# Altium integrated library PCB_Project1.IntLib: 125 symbols
Pins are listed as number, name and electrical type; pins without a type are passive.

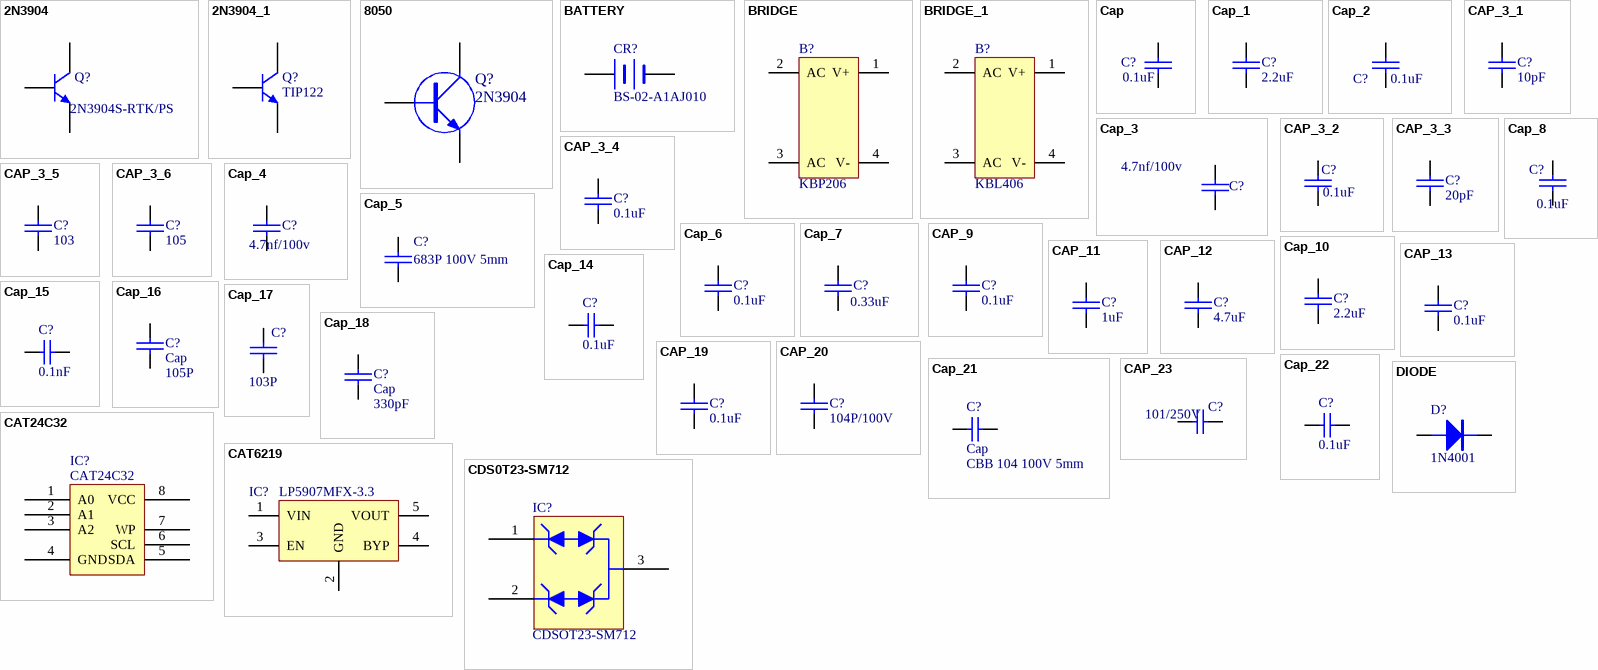
[diagram p0: symbols 2N3904 to DIODE]

## 2N3904
designator Q?, comment 2N3904S-RTK/PS
品牌： KEC  型号： 2N3904S-RTK/PS  晶体管类型：NPN 集射极击穿电压(Vceo)：40V 集电极电流(Ic)：200mA 功率(Pd)：350mW 直流电流增益(hFE@Ic,Vce)：100@10mA,1V NPN,Vceo=40V,Ic=200mA; Published: 8-Jun-2000; LatestRevisionDate: 15-Jan-2003; LatestRevisionNote: PCB Footprint 'BCY-W3/D4.7' replaced; DatasheetVersion: 1997; PackageVersion: Sep-1998; PackageReference: TO-92A; Publisher: Altium Limited; PackageDescription: TO, Flat Index; 3 In-Line, Axial Leads; Body Dia. 4.5mm; Leads 0.51 x 0.48 mm (max); ComponentLink1Description: Manufacturer Link; ComponentLink1URL: http://www.fairchildsemi.com/; ComponentLink2Description: Datasheet; ComponentLink2URL: http://www.fairchildsemi.com/ds/2N%2F2N3904.pdf
simulation model 2N3904 (NPN)
signal-integrity model 2N3904
footprint SOT-23
pins: 1 B, 2 E, 3 C

## 2N3904_1
designator Q?, comment TIP122
NPN General Purpose Amplifier; Published: 8-Jun-2000; LatestRevisionDate: 15-Jan-2003; LatestRevisionNote: PCB Footprint 'BCY-W3/D4.7' replaced; DatasheetVersion: 1997; PackageVersion: Sep-1998; PackageReference: TO-92A; Publisher: Altium Limited; PackageDescription: TO, Flat Index; 3 In-Line, Axial Leads; Body Dia. 4.5mm; Leads 0.51 x 0.48 mm (max); ComponentLink1Description: Manufacturer Link; ComponentLink1URL: http://www.fairchildsemi.com/; ComponentLink2Description: Datasheet; ComponentLink2URL: http://www.fairchildsemi.com/ds/2N%2F2N3904.pdf
footprint TO-220-AB (TO, Thru-Hole, Vertical, Heatsink Mounted; 3 In-Line Leads; Pitch 2.54 mm)
pins: 1 B, 2 C, 3 E

## 8050
designator Q?, comment 2N3904
品牌： KEC   型号： 2N3904S-RTK/PS 晶体管类型：NPN 集射极击穿电压(Vceo)：40V 集电极电流(Ic)：200mA 功率(Pd)：350mW 直流电流增益(hFE@Ic,Vce)：100@10mA,1V NPN,Vceo=40V,Ic=200mA
footprint TO92BB
footprint SOT-23
pins: 1 B, 2 E, 3 C

## BATTERY
designator CR?, comment BS-02-A1AJ010
品牌： MYOUNG(美阳)  型号： BS-02-A1AJ010  连接器类型：电池底座 适用电池规格：CR2032 工作温度范围：-25℃~+85℃ 插脚 卧式底座 环保吸塑托盘包装
footprint BATT
footprint BATT
pins: 1 +, 2 -
2 alternate drawings of the same symbol

## BRIDGE
designator B?, comment KBP206
品牌： MDD  型号： KBP206  直流反向耐压(Vr)：600V 平均整流电流(Io)：2A 正向压降(Vf)：1.1V@2A 正向浪涌电流(Ifsm)：60A
footprint KBP206
pins: 1 V+, 2 AC, 3 AC, 4 V-

## BRIDGE_1
designator B?, comment KBL406
品牌： MDD  型号： KBL406  直流反向耐压(Vr)：600V 平均整流电流(Io)：4A 正向压降(Vf)：1V@4A 正向浪涌电流(Ifsm)：125A
footprint KPL406
pins: 1 V+, 2 AC, 3 AC, 4 V-

## Cap
designator C?, comment 0.1uF
品牌： SAMSUNG(三星)    型号： CL10B104KB8NNNC  容值：100nF 精度：±10% 额定电压：50V 材质(温度系数)：X7R 材质:X7R; Value: 104P
footprint 0805C
pins: 1, 2

## Cap_1
designator C?, comment 2.2uF
品牌： SAMSUNG(三星) 型号： CL21B225KAFNNNE 容值：2.2uF 精度：±10% 额定电压：25V 材质(温度系数)：X7R 材质:X7R; Value: 104P
footprint 0805C
pins: 1, 2

## Cap_2
designator C?, comment 0.1uF
品牌： SAMSUNG(三星) 型号： CL21B104KBCNNNC ：容值：100nF 精度：±10% 额定电压：50V 材质(温度系数)：X7R 材质:X7R; Value: 104P
footprint 0805C
pins: 1, 2

## Cap_3
designator C?, comment 4.7nf/100v
品牌： muRata(村田) 品牌： muRata(村田)  容值：4.7nF 精度：±10% 额定电压：100V 温度系数：X7R; Value: 472P 100V 5mm
footprint CP1
pins: 1, 2

## CAP_3_1
designator C?, comment 10pF
品牌： SAMSUNG(三星)  型号： CL21C100JCANNNC 容值：10pF 精度：±5% 额定电压：100V 材质(温度系数)：C0G C0G
footprint 0805C
pins: 1, 2

## CAP_3_2
designator C?, comment 0.1uF
品牌： SAMSUNG(三星) 型号： CL21B104KBCNNNC ：容值：100nF 精度：±10% 额定电压：50V 材质(温度系数)：X7R 材质:X7R
footprint 0805C
pins: 1, 2

## CAP_3_3
designator C?, comment 20pF
品牌： SAMSUNG(三星)  型号： CL21C200JBANNNC     容值：20pF 精度：±5% 额定电压：50V 材质(温度系数)：C0G 材质:C0G
footprint 0805C
pins: 1, 2

## CAP_3_4
designator C?, comment 0.1uF
品牌： SAMSUNG(三星)    型号： CL10B104KB8NNNC  容值：100nF 精度：±10% 额定电压：50V 材质(温度系数)：X7R 材质:X7R
footprint 0805C
pins: 1, 2

## CAP_3_5
designator C?, comment 103
品牌： SAMSUNG(三星)  型号： CL21B103KBANNNC  容值：10nF 精度：±10% 额定电压：50V 材质(温度系数)：X7R 材质:X7R
footprint 0805C
pins: 1, 2

## CAP_3_6
designator C?, comment 105
品牌： SAMSUNG(三星)  型号： CL21B105KBFNNNE  容值：1uF 精度：±10% 额定电压：50V 材质(温度系数)：X7R 材质:X7R
footprint 0805C
pins: 1, 2

## Cap_4
designator C?, comment 4.7nf/100v
品牌： muRata(村田) 品牌： muRata(村田)  容值：4.7nF 精度：±10% 额定电压：100V 温度系数：X7R; Value: 472P
footprint CP1
pins: 1, 2

## Cap_5
designator C?, comment 683P 100V 5mm
品牌： muRata(村田) 型号： RCER72A683K1K1H03B  容值：68nF 精度：±10% 额定电压：100V 温度系数：X7R; Value: 683P 100V 5mm
footprint CP1
pins: 1, 2

## Cap_6
designator C?, comment 0.1uF
品牌： SAMSUNG(三星)    型号： CL10B104KB8NNNC  容值：100nF 精度：±10% 额定电压：50V 材质(温度系数)：X7R 材质:X7R
footprint 0805C
pins: 1, 2

## Cap_7
designator C?, comment 0.33uF
品牌： SAMSUNG(三星) 型号： CL21B334KBFNNNE 容值：330nF 精度：±10% 额定电压：50V 材质(温度系数)：X7R 材质:X7R; Value: 0.33uF
footprint 0805C
pins: 1, 2

## Cap_8
designator C?, comment 0.1uF
品牌： SAMSUNG(三星) 型号： CL21B104KBCNNNC ：容值：100nF 精度：±10% 额定电压：50V 材质(温度系数)：X7R 材质:X7R; Value: 0.1uF
footprint 0805C
pins: 1, 2

## CAP_9
designator C?, comment 0.1uF
footprint 0805C
pins: 1, 2

## Cap_10
designator C?, comment 2.2uF
Capacitor; Value: 104P
footprint 0805C
pins: 1, 2

## CAP_11
designator C?, comment 1uF
品牌： SAMSUNG(三星)  型号： CL21B105KBFNNNE  容值：1uF 精度：±10% 额定电压：50V 材质(温度系数)：X7R 材质:X7R
footprint 0805C
pins: 1, 2

## CAP_12
designator C?, comment 4.7uF
品牌： SAMSUNG(三星)  型号： CL21A475KBQNNNE  容值：4.7uF 精度：±10% 额定电压：50V 材质(温度系数)：X5R 材质：X5R
footprint 0805C
pins: 1, 2

## CAP_13
designator C?, comment 0.1uF
Capacitor
footprint 0805C
pins: 1, 2

## Cap_14
designator C?, comment 0.1uF
品牌： SAMSUNG(三星) 型号： CL21B104KBCNNNC ：容值：100nF 精度：±10% 额定电压：50V 材质(温度系数)：X7R 材质:X7R; Published: 8-Jun-2000; LatestRevisionDate: 17-Jul-2002; LatestRevisionNote: Re-released for DXP Platform.; PackageReference: RAD-0.3; Publisher: Altium Limited; PackageDescription: Radial Cap, Thru-Hole; 2 Leads; 0.3 in Pin Spacing; Value: 0.1uF
footprint RAD-0.3 (Radial Cap, Thru-Hole; 2 Leads; 0.3 in Pin Spacing)
simulation model CAP (Capacitor)
signal-integrity model Cap
footprint 0603C
footprint 0805C
pins: 1, 2

## Cap_15
designator C?, comment 0.1nF
品牌： SAMSUNG(三星)   型号： CL21C101JBANNNC   容值：100pF 精度：±5% 额定电压：50V 材质(温度系数)：C0G 材质:C0G; Published: 8-Jun-2000; LatestRevisionDate: 17-Jul-2002; LatestRevisionNote: Re-released for DXP Platform.; PackageReference: RAD-0.3; Publisher: Altium Limited; PackageDescription: Radial Cap, Thru-Hole; 2 Leads; 0.3 in Pin Spacing; Value: 0.1nF
footprint RAD-0.3 (Radial Cap, Thru-Hole; 2 Leads; 0.3 in Pin Spacing)
simulation model CAP (Capacitor)
signal-integrity model Cap
footprint 0603C
footprint 0805C
pins: 1, 2

## Cap_16
designator C?, comment Cap  value 105P
Capacitor
footprint 0805C
pins: 1, 2

## Cap_17
designator C?, comment value 103P  (hidden comment: Cap)
Capacitor
footprint 0805C
pins: 1, 2

## Cap_18
designator C?, comment Cap  value 330pF
footprint 0603C
pins: 1, 2

## CAP_19
designator C?, comment 0.1uF
品牌： SAMSUNG(三星) 型号： CL21B104KBCNNNC ：容值：100nF 精度：±10% 额定电压：50V 材质(温度系数)：X7R 材质:X7R
footprint 0805C
pins: 1, 2

## CAP_20
designator C?, comment 104P/100V
Capacitor
footprint CP1
pins: 1, 2

## Cap_21
designator C?, comment Cap  value CBB 104 100V 5mm
Capacitor; Published: 8-Jun-2000; LatestRevisionDate: 17-Jul-2002; LatestRevisionNote: Re-released for DXP Platform.; PackageReference: RAD-0.3; Publisher: Altium Limited; PackageDescription: Radial Cap, Thru-Hole; 2 Leads; 0.3 in Pin Spacing
simulation model CAP (Capacitor)
signal-integrity model Cap
footprint CP1
pins: 1, 2

## Cap_22
designator C?, comment value 0.1uF  (hidden comment: Cap)
Capacitor; Published: 8-Jun-2000; LatestRevisionDate: 17-Jul-2002; LatestRevisionNote: Re-released for DXP Platform.; PackageReference: RAD-0.3; Publisher: Altium Limited; PackageDescription: Radial Cap, Thru-Hole; 2 Leads; 0.3 in Pin Spacing
footprint RAD-0.3 (Radial Cap, Thru-Hole; 2 Leads; 0.3 in Pin Spacing)
simulation model CAP (Capacitor)
signal-integrity model Cap
footprint 0603C
pins: 1, 2

## CAP_23
designator C?, comment 101/250V
品牌： SHM(南方宏明) 型号： DCF101K26Y5PQ6BL7A0 等级：X1,Y2 容值：100pF 精度：±10% 电压(AC)：250V；400V 安规瓷介电容器 Y2 101 ±10% Y2 250VAC；100pF；±10%；Y5P；D=6.8max；CP线 0.55mm；引脚长20min.mm；直脚/直引线；引线间距7.5mm; Manufacturer: Generic Components; Class: Passive; SubClass: Capacitor; Published: 08/06/2000; Publisher: Altium Hobart Technology Centre
footprint RAD-0.3
footprint SIP-P4/A7.5
footprint C6-7.62
pins: 1, 2
2 alternate drawings of the same symbol

## CAT24C32
designator IC?
品牌： onsemi(安森美)  型号： CAT24C32WI-GT3  接口类型：I2C 存储容量：32Kbit EEPROM 串行 32-Kb I2C CAT24C32 是一款 32-kb I2C 串行 EEPROM 器件，内部组织为 4096 个词，每个词 8 位。它具有 32 字节页写入缓存，支持标准 (100 kHz)、快速 (400 kHz) 和超快 (1 MHz) I2C 协议。外部地址引脚使其能够在同一个总线上放置最多八
footprint SO8
pins: 1 A0, 2 A1, 3 A2, 4 GND, 5 SDA, 6 SCL, 7 WP, 8 VCC

## CAT6219
designator IC?, comment LP5907MFX-3.3
品牌： TECH PUBLIC(台舟)  型号： TPLP5907MFX-3.3
footprint SOT-23-5
pins: 1 VIN, 2 GND, 3 EN, 4 BYP, 5 VOUT
2 alternate drawings of the same symbol

## CDS0T23-SM712
designator IC?, comment CDSOT23-SM712
品牌： BOURNS     型号： CDSOT23-SM712   线路数：2 反向截止电压(Vrwm)：12V；7V 击穿电压(VBR)：13.3V；7.5V 钳位电压(Vc)@Ipp：26V；14V
footprint SOT23
pins: 1, 2, 3

## DIODE
designator D?, comment 1N4001
品牌： TWGMC(台湾迪嘉) 型号： 1N4001 极管配置：独立式 直流反向耐压(Vr)：50V 平均整流电流(Io)：1A 正向压降(Vf)：1.1V@1A 二极管配置：独立式 直流反向耐压(Vr)：50V 平均整流电流(Io)：1A 正向压降(Vf)：1.1V@1A
footprint SK24
pins: 1 A, 2 K

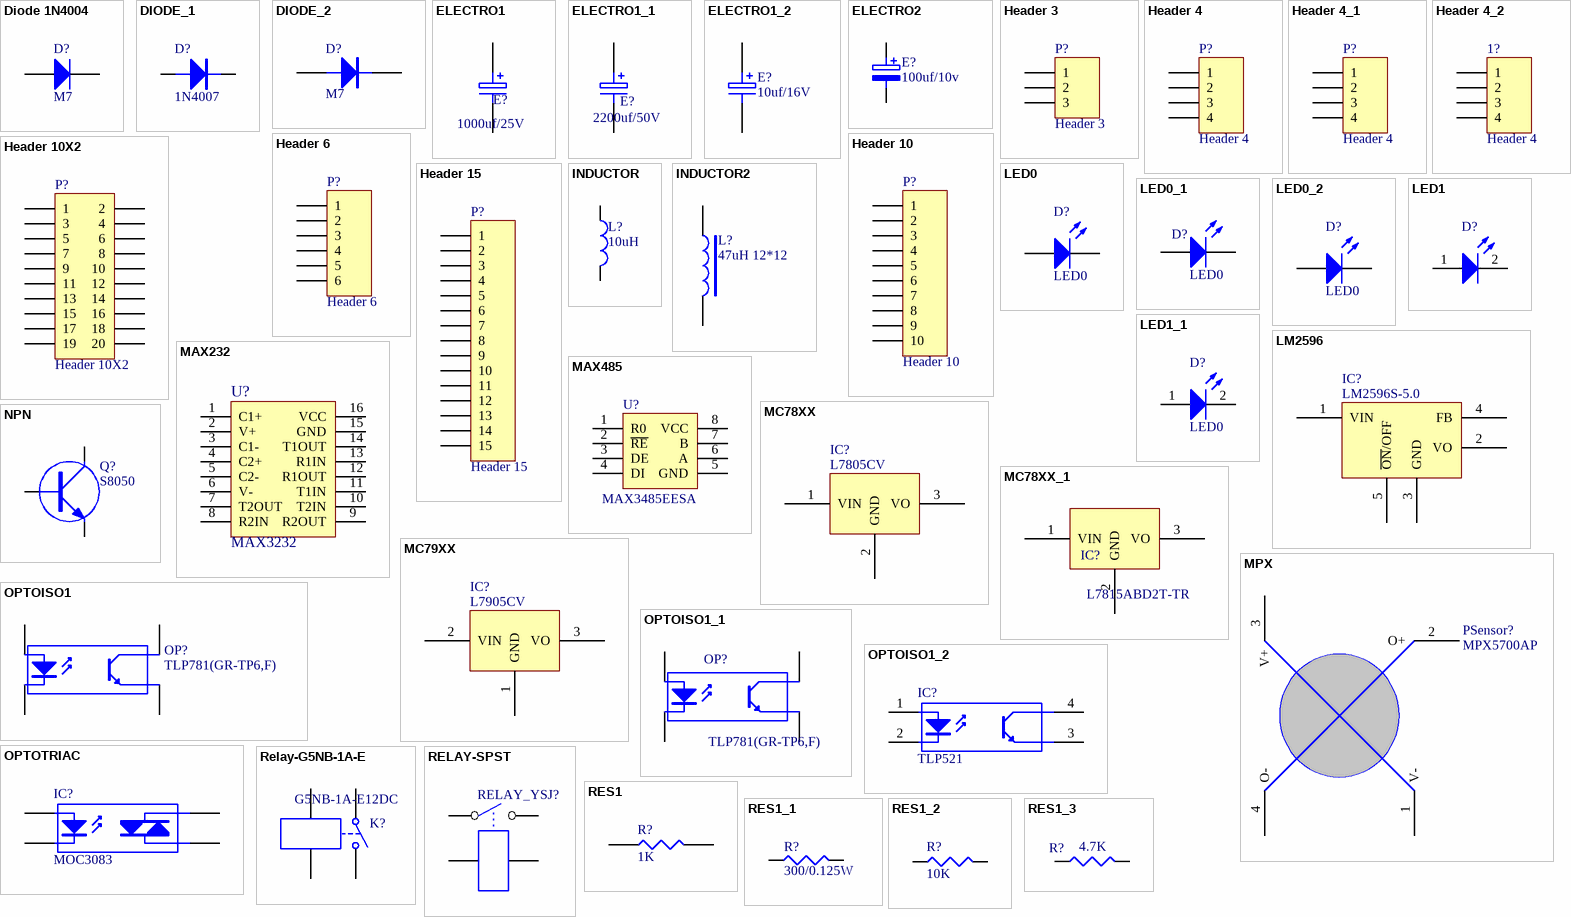
[diagram p1: symbols Diode 1N4004 to RES1_3]

## Diode 1N4004
designator D?, comment M7
1 Amp General Purpose Rectifier; Published: 8-Jun-2000; LatestRevisionDate: 17-Jul-2002; LatestRevisionNote: Re-released for DXP Platform.; DatasheetVersion: 1998; PackageVersion: Aug-1999; PackageReference: DO-41; Publisher: Altium Limited; PackageDescription: Diode, Axial; Body 5.2 x 2.7 mm (LxDia. max), Lead Dia. 0.86 mm (max); Code_JEDEC: DO-204-AL; ComponentLink1Description: Manufacturer Link; ComponentLink1URL: http://www.fairchildsemi.com/; ComponentLink2Description: Datasheet; ComponentLink2URL: http://www.fairchildsemi.com/ds/1N%2F1N4001.pdf
footprint DO-41 (Diode, Axial; Body 5.2 x 2.7 mm (LxDia. max), Lead Dia. 0.86 mm (max))
simulation model 1N4004 (DIODE)
signal-integrity model 1N4004
footprint DO-214
footprint DO-214AC
pins: 1 A, 2 K

## DIODE_1
designator D?, comment 1N4007
品牌： TWGMC(台湾迪嘉) 型号： 1N4007 二极管配置：独立式 直流反向耐压(Vr)：1kV 平均整流电流(Io)：1A 正向压降(Vf)：1.1V@1A 二极管配置：独立式 直流反向耐压(Vr)：1kV 平均整流电流(Io)：1A 正向压降(Vf)：1.1V@1A
footprint DO-213AB
pins: 1 A, 2 K

## DIODE_2
designator D?, comment M7
Diode
footprint SK24
pins: 1 A, 2 K

## ELECTRO1
designator E?, comment 1000uf/25V
品牌： CX(承兴) 型号： KM108M025G17RR0VH2FP0 容值：1000uF 精度：±20% 额定电压：25V; Value: 1000uf/25V
footprint EC5.08-10.5
pins: 1, 2

## ELECTRO1_1
designator E?, comment 2200uf/50V
品牌： CX(承兴) 型号： KM228M050K30RR0VH2FP0 容值：2200uF 精度：±20% 额定电压：50V; Value: 2200uf/50V
footprint EC5.08-13.5
pins: 1, 2

## ELECTRO1_2
designator E?, comment 10uf/16V
品牌： Kyocera AVX 型号： TAJB106K016RNJ ：容值：10uF 精度：±10% 额定电压：16V 等效串联电阻：2.8Ω@100kHz
footprint 3528
pins: 1, 2

## ELECTRO2
designator E?, comment 100uf/10v
品牌： Kyocera AVX 型号： TAJB107M010RNJ  容值：100uF 精度：±20% 额定电压：10V 等效串联电阻：1.4Ω@100kHz; Value: 100uf/16V
footprint E-BIP-P4/D10
footprint 3528
pins: 1, 2
2 alternate drawings of the same symbol

## Header 3
designator P?
品牌： KEFA(科发)  KF7.62-3p隔板类型：两面 间距：7.62mm 结构：1x2P 每排PIN数：2 排数：1 安装方式：直针 引脚位置：边脚 额定电流：24A 额定电压：450V 线规 - AWG：12~22 线规 - mm2：2.5 工作温度范围：-40℃~+105℃ 颜色：黑色 黑色; LatestRevisionDate: 17-Jul-2002; LatestRevisionNote: Re-released for DXP Platform.; Publisher: Altium Limited
footprint HDR1X3 (Connector; Header; 3 Position)
signal-integrity model Connector
footprint CONN-TH-KF7.62-3P
pins: 1, 2, 3

## Header 4
designator P?
品牌： KEFA(科发)  KF7.62-4p隔板类型：两面 间距：7.62mm 结构：1x2P 每排PIN数：2 排数：1 安装方式：直针 引脚位置：边脚 额定电流：24A 额定电压：450V 线规 - AWG：12~22 线规 - mm2：2.5 工作温度范围：-40℃~+105℃ 颜色：黑色 黑色; LatestRevisionDate: 17-Jul-2002; LatestRevisionNote: Re-released for DXP Platform.; Publisher: Altium Limited
signal-integrity model Connector
footprint CONN-TH_KF7.62-4P
pins: 1, 2, 3, 4

## Header 4_1
designator P?, comment Header 4
品牌： XFCN(兴飞) 型号： PZ254V-11-04P  排数：单排 总PIN位数：4P 间距：2.54mm 插针结构：1x4P 安装类型：直插 圆针/方针：方针 额定电流：3A 额定电压：250V 配合针长度：6mm 塑高：2.5mm 端接针长度：3mm 工作温度范围：-40℃~+105℃ 颜色：黑色; LatestRevisionDate: 17-Jul-2002; LatestRevisionNote: Re-released for DXP Platform.; Publisher: Altium Limited
footprint HDR1X4 (Connector; Header; 4 Position)
signal-integrity model Connector
pins: 1, 2, 3, 4

## Header 4_2
designator 1?, comment Header 4
品牌： Megastar(兆星)    型号： ZX-XH2.54-4PZZ    参考系列：XH 间距：2.54mm 插针结构：1x4P 排数：1 每排PIN数：4 公母：公型插针 安装方式：直插 额定电流：3A 触头材质：黄铜 触头镀层：锡 工作温度范围：-25℃~+85℃ 焊接温度(最大值)：260℃ 配套胶壳型号： ZX-XH2.54-4PJK 配套端子型号： ZX-XH2.54-DZ; LatestRevisionDate: 17-Jul-2002; LatestRevisionNote: Re-released for DXP Platform.; Publisher: Altium Limited
footprint HDR1X4 (Connector; Header; 4 Position)
signal-integrity model Connector
footprint XH2.54-4P
pins: 1, 2, 3, 4

## Header 6
designator P?
品牌： KEFA(科发)  KF7.62-6p隔板类型：两面 间距：7.62mm 结构：1x2P 每排PIN数：2 排数：1 安装方式：直针 引脚位置：边脚 额定电流：24A 额定电压：450V 线规 - AWG：12~22 线规 - mm2：2.5 工作温度范围：-40℃~+105℃ 颜色：黑色 黑色; LatestRevisionDate: 17-Jul-2002; LatestRevisionNote: Re-released for DXP Platform.; Publisher: Altium Limited
signal-integrity model Connector
footprint CONN-TH_6P-P7.62_WJ25C-B-7.62-6P
pins: 1, 2, 3, 4, 5, 6

## Header 10
designator P?
品牌： KEFA(科发)  KF7.62-10p隔板类型：两面 间距：7.62mm 结构：1x2P 每排PIN数：2 排数：1 安装方式：直针 引脚位置：边脚 额定电流：24A 额定电压：450V 线规 - AWG：12~22 线规 - mm2：2.5 工作温度范围：-40℃~+105℃ 颜色：黑色 黑色; LatestRevisionDate: 17-Jul-2002; LatestRevisionNote: Re-released for DXP Platform.; Publisher: Altium Limited
footprint CONN-TH-KF7.62-10P
signal-integrity model Connector
pins: 1, 2, 3, 4, 5, 6, 7, 8, 9, 10

## Header 10X2
designator P?
品牌： ZHOURI(洲日)   型号： DC3-2.54-20PAS  ：连接器类型：简牛座 间距：2.54mm 结构：2x10P 排数：2 每排PIN数：10 行距：2.54mm 封装形式：直插 额定电流：1.5A 工作温度范围：-40℃~+105℃ 简易牛角 2.54-2x10 ROHS 直插; LatestRevisionDate: 17-Jul-2002; LatestRevisionNote: Re-released for DXP Platform.; Publisher: Altium Limited
signal-integrity model Connector
footprint HDR-TH_20P-P2.54_DC3-2.54-20PAS
pins: 1, 2, 3, 4, 5, 6, 7, 8, 9, 10, 11, 12, 13, 14, 15, 16, 17, 18, 19, 20

## Header 15
designator P?
品牌： KEFA(科发)  KF7.62-15p隔板类型：两面 间距：7.62mm 结构：1x2P 每排PIN数：2 排数：1 安装方式：直针 引脚位置：边脚 额定电流：24A 额定电压：450V 线规 - AWG：12~22 线规 - mm2：2.5 工作温度范围：-40℃~+105℃ 颜色：黑色 黑色; LatestRevisionDate: 17-Jul-2002; LatestRevisionNote: Re-released for DXP Platform.; Publisher: Altium Limited
footprint 15p
signal-integrity model Connector
pins: 1, 2, 3, 4, 5, 6, 7, 8, 9, 10, 11, 12, 13, 14, 15

## INDUCTOR
designator L?, comment 10uH
品牌： FH(风华)  型号： CMI201209X100KT  ：电感值：10uH 精度：±10% 额定电流：15mA 直流电阻(DCR)：1.15Ω
footprint L 0805 (小功率贴片电感        淘宝ID:黄晶宝石)
pins: 1, 2

## INDUCTOR2
designator L?  value 47uH 12*12  (hidden comment: INDUCTOR2)
品牌： YJYCOIN(益嘉源)  型号： YPRH1209-470M    电感值：47uH 精度：±20% 额定电流：3.6A
footprint L47UH
pins: 1, 2

## LED0
designator D?
品牌： 国星光电 型号： NCD0805B2 发光颜色：蓝灯 贴片LED；0805蓝色；2012蓝色；透镜颜色：无色透明；发光角度：130°；功率：72mW；工作温度：-30℃~+85℃；; Published: 8-Jun-2000; LatestRevisionDate: 08-Jul-2005; LatestRevisionNote: Mech Layer 1 removed.; PackageReference: LED-0; Publisher: Altium Limited; PackageDescription: LED; 2 Leads
simulation model LED0 (Diode)
footprint 0805LED
pins: 1 A, 2 K

## LED0_1
designator D?, comment LED0
品牌： 国星光电  型号： NCD0805G1  发光颜色：翠绿 贴片LED；0805翠绿；2012翠绿；透镜颜色：无色透明；发光角度：130°；功率：72mW；工作温度：-30℃~+85℃； 尺寸2.0*1.25*1.1；IF=5ma：2.5~3.6v，525~537.5nm,180~400mcd 金线，光强高，功耗低，可靠性好，寿命长; Published: 8-Jun-2000; LatestRevisionDate: 08-Jul-2005; LatestRevisionNote: Mech Layer 1 removed.; PackageReference: LED-0; Publisher: Altium Limited; PackageDescription: LED; 2 Leads
simulation model LED0 (Diode)
footprint 0805LED
pins: 1 A, 2 K

## LED0_2
designator D?, comment LED0
Typical INFRARED GaAs LED; Published: 8-Jun-2000; LatestRevisionDate: 08-Jul-2005; LatestRevisionNote: Mech Layer 1 removed.; PackageReference: LED-0; Publisher: Altium Limited; PackageDescription: LED; 2 Leads
footprint LED-0 (LED; 2 Leads)
simulation model LED0 (Diode)
footprint D0805 (1/8W)
pins: 1 A, 2 K

## LED1
designator D?
Typical RED GaAs LED; Manufacturer: Generic Components; Class: Optoelectronic; Published: 08/06/2000; Publisher: Altium Hobart Technology Centre; SubClass: LED
footprint LED-1
footprint 0805LED
pins: 1 A, 2 K
2 alternate drawings of the same symbol

## LED1_1
designator D?, comment LED0
品牌： 国星光电 型号： NCD0805B2 发光颜色：蓝灯 贴片LED；0805蓝色；2012蓝色；透镜颜色：无色透明；发光角度：130°；功率：72mW；工作温度：-30℃~+85℃；; Manufacturer: Generic Components; Class: Optoelectronic; SubClass: LED; Published: 08/06/2000; Publisher: Altium Hobart Technology Centre
footprint LED-1
footprint 0805LED
pins: 1 A, 2 K
2 alternate drawings of the same symbol

## LM2596
designator IC?, comment LM2596S-5.0
品牌： UMW(友台半导体)  型号： LM2596S-5.0  功能类型：降压型 输出类型：固定 输入电压：40V 输出电压：5V 输出电流(最大值)：3A
footprint TO-263-LM2596
pins: 1 VIN, 2 VO, 3 GND, 4 FB, 5 ~{ON}/OFF

## MAX232
designator U?, comment MAX3232
品牌： UMW(友台半导体)   型号： MAX3232ESE   类型：收发器 驱动器/接收器：2/2 数据速率：250Kbps
footprint SO16
pins: 1 C1+, 2 V+, 3 C1-, 4 C2+, 5 C2-, 6 V-, 7 T2OUT, 8 R2IN, 9 R2OUT, 10 T2IN, 11 T1IN, 12 R1OUT, 13 R1IN, 14 T1OUT, 15 GND, 16 VCC

## MAX485
designator U?, comment MAX3485EESA
品牌： ADI(亚德诺)/MAXIM(美信)   型号： MAX3485EESA+T  类型：收发器 驱动器/接收器：1/1 数据速率：12Mbps
footprint SOP8 (封装库来自淘宝卖家 ID：黄晶宝石)
pins: 1 R0, 2 ~{RE}, 3 DE, 4 DI, 5 GND, 6 A, 7 B, 8 VCC

## MC78XX
designator IC?, comment L7805CV
品牌： UMW(友台半导体)  型号： L7805CV  输出类型：固定 输出极性：正 最大输入电压：35V 输出电压：5V 输出电流：1.2A
footprint DPAK3
pins: 1 VIN, 2 GND, 3 VO

## MC78XX_1
designator IC?, comment L7815ABD2T-TR
品牌： ST(意法半导体)   型号： L7815ABD2T-TR   输出类型：固定 输出极性：正 最大输入电压：35V 输出电压：15V 输出电流：1.5A 电源纹波抑制比(PSRR)：58dB@(120Hz)
footprint DPAK3
pins: 1 VIN, 2 GND, 3 VO

## MC79XX
designator IC?, comment L7905CV
品牌： ST(意法半导体) 封装： TO-220 输出类型：固定 输出极性：负 最大输入电压：35V 输出电压：5V 输出电流：1.5A 电源纹波抑制比(PSRR)：60dB@(120Hz) 薄片 5.0V
footprint DPAK3
pins: 1 GND, 2 VIN, 3 VO

## MPX
designator PSensor?, comment MPX5700AP
footprint MPX5700AP
pins: 1 V-, 2 O+, 3 V+, 4 O-

## NPN
designator Q?, comment S8050
NPN Transistor
footprint SOT23
pins: 1 B, 2 E, 3 C

## OPTOISO1
designator OP?, comment TLP781(GR-TP6,F)
品牌： TOSHIBA(东芝)    型号： TLP781(GR-TP6,F)  输入电压类型：DC 输出通道数：1 正向电压：1.15V 反向电压：5V 输出电流：50mA 接收端电压：80V 集射极饱和电压(Vce(sat)@Ic,IF)：400mV@2.4mA,8mA 隔离电压(rms)：5kV OPTOISOLATR 5KV TRANSISTOR 工作温度:-55°C~110°C
footprint DIP-4
footprint TLV-356
pins: 1 A, 2 K, 3 E, 4 C

## OPTOISO1_1
designator OP?, comment TLP781(GR-TP6,F)
Optoisolator  品牌： TOSHIBA(东芝)    型号： TLP781(GR-TP6,F)  输入电压类型：DC 输出通道数：1 正向电压：1.15V 反向电压：5V 输出电流：50mA 接收端电压：80V 集射极饱和电压(Vce(sat)@Ic,IF)：400mV@2.4mA,8mA 隔离电压(rms)：5kV OPTOISOLATR 5KV TRANSISTOR 工作温度:-55°C~110°C
footprint DIP-4
footprint EL-817
footprint TLV-356
pins: 1 A, 2 K, 3 E, 4 C

## OPTOISO1_2
designator IC?, comment TLP521
Optoisolator
footprint DIP4
pins: 1 A, 2 K, 3 E, 4 C

## OPTOTRIAC
designator IC?, comment MOC3083
品牌： LITEON(光宝)   型号： MOC3083     可控硅类型：双向可控硅 正向电压：1.2V 正向电流：50mA 断态峰值电压(Vdrm)：800V 静态dv/dt：1500V/us
footprint DIP6
pins: 1 A, 2 K, 4 A/K, 6 A/K

## Relay-G5NB-1A-E
designator K?, comment G5NB-1A-E12DC
品牌： OMRON(欧姆龙) 型号： G5NB-1A-E DC12 封装： 插件,7x20.4mm; Published: 24-Mar-1999; LatestRevisionDate: 17-Jul-2002; LatestRevisionNote: Re-released for DXP Platform.; PackageReference: MODULE4; Publisher: Altium Limited
simulation model SPSTRELAY (Spice Subcircuit)
footprint JQC-3FF
footprint G5NB-1A-E
pins: 1, 2, 3, 4

## RELAY-SPST
designator RELAY_YSJ?, comment HF2150-1A-24DE  (value not drawn)
HF2150-1A-24DE品牌: HF(宏发)
footprint JIDIANQI
pins: 1, 2, 3, 4

## RES1
designator R?, comment 1K
品牌： UNI-ROYAL(厚声) 型号： 0805W8F1001T5E 电阻类型：厚膜电阻 阻值：1kΩ 精度：±1% 功率：125mW 温度系数：±100ppm/℃
footprint 0805R
pins: 1, 2

## RES1_1
designator R?, comment 300/0.125W
品牌： UNI-ROYAL(厚声)    型号： 0805W8F3000T5E    电阻类型：厚膜电阻 阻值：300Ω 精度：±1% 功率：125mW 温度系数：±100ppm/℃
footprint 0805R
pins: 1, 2

## RES1_2
designator R?, comment 10K
品牌： UNI-ROYAL(厚声) 型号： 0805W8F1002T5E 电阻类型：厚膜电阻 阻值：10kΩ 精度：±1% 功率：125mW 温度系数：±100ppm/℃
footprint 0805R
pins: 1, 2

## RES1_3
designator R?, comment 4.7K
电阻类型：厚膜电阻 阻值：4.7kΩ 精度：±1% 功率：125mW 温度系数：±100ppm/℃
footprint 0805R
pins: 1, 2

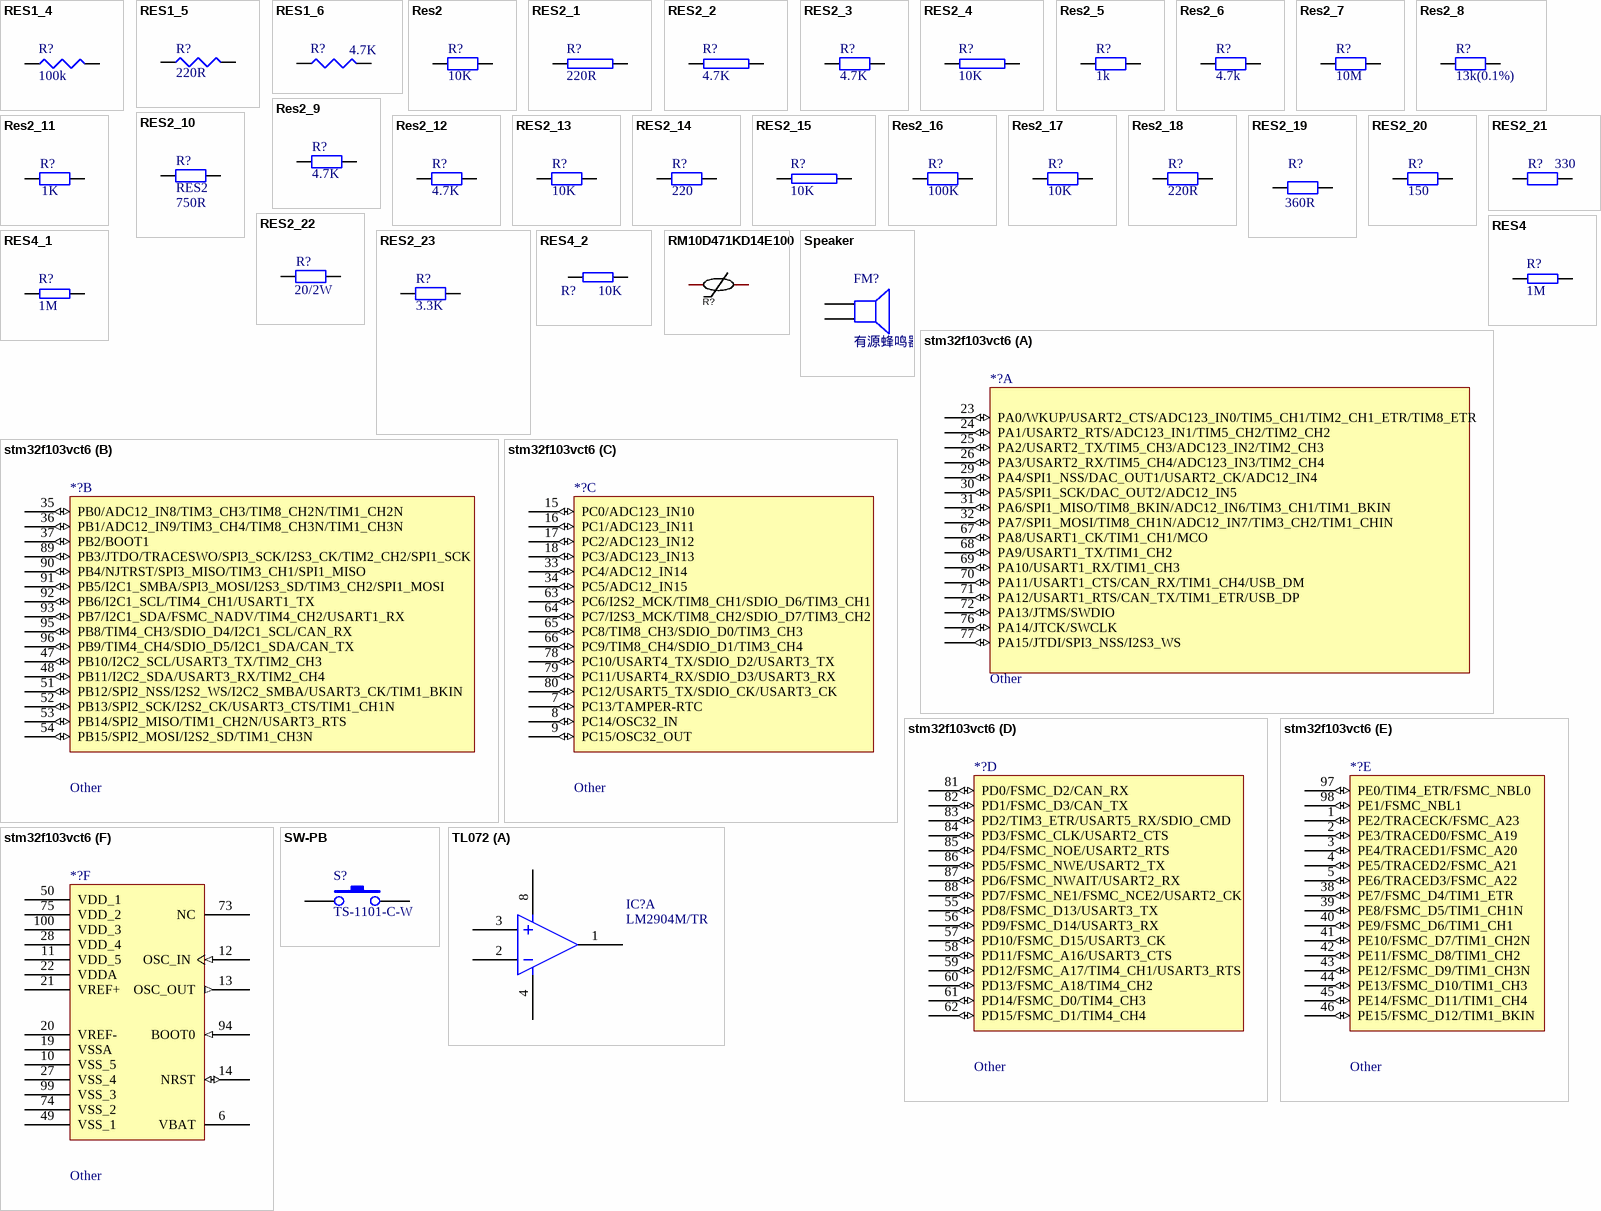
[diagram p2: symbols RES1_4 to TL072]

## RES1_4
designator R?, comment 100k
品牌： UNI-ROYAL(厚声)  品牌： UNI-ROYAL(厚声)  电阻类型：厚膜电阻 阻值：100kΩ 精度：±1% 功率：125mW 温度系数：±100ppm/℃
footprint 0805R
pins: 1, 2

## RES1_5
designator R?, comment 220R
品牌： UNI-ROYAL(厚声) 型号： 0805W8J0221T5E 电阻类型：厚膜电阻 阻值：220Ω 精度：±5% 功率：125mW 温度系数：±100ppm/℃
footprint 1206
footprint 0805R
pins: 1, 2

## RES1_6
designator R?, comment 4.7K
品牌： UNI-ROYAL(厚声) 型号： 0805W8F4701T5E 电阻类型：厚膜电阻 阻值：4.7kΩ 精度：±1% 功率：125mW 温度系数：±100ppm/℃
footprint 1206
footprint 0805R
pins: 1, 2

## Res2
designator R?, comment 10K
品牌： UNI-ROYAL(厚声) 型号： 0805W8F1002T5E 电阻类型：厚膜电阻 阻值：10kΩ 精度：±1% 功率：125mW 温度系数：±100ppm/℃; Published: 8-Jun-2000; LatestRevisionDate: 17-Jul-2002; LatestRevisionNote: Re-released for DXP Platform.; PackageReference: AXIAL-0.4; Publisher: Altium Limited; PackageDescription: Axial Device, Thru-Hole; 2 Leads; 0.4 in Pin Spacing; Value: 10K
simulation model RESISTOR (Resistor)
signal-integrity model Res
footprint 0805R
pins: 1, 2

## RES2_1
designator R?, comment 220R
品牌： UNI-ROYAL(厚声) 型号： 0805W8J0221T5E 电阻类型：厚膜电阻 阻值：220Ω 精度：±5% 功率：125mW 温度系数：±100ppm/℃
footprint 0805R
pins: 1, 2

## RES2_2
designator R?, comment 4.7K
品牌： UNI-ROYAL(厚声) 型号： 0805W8F4701T5E 电阻类型：厚膜电阻 阻值：4.7kΩ 精度：±1% 功率：125mW 温度系数：±100ppm/℃
footprint 0805R
pins: 1, 2

## RES2_3
designator R?, comment 4.7K
品牌： UNI-ROYAL(厚声) 型号： 0805W8F3301T5E  电阻类型：厚膜电阻 阻值：3.3kΩ 精度：±1% 功率：125mW 温度系数：±100ppm/℃; Manufacturer: Generic Components; Class: Passive; SubClass: Resistor; Published: 08/06/2000; Publisher: Altium Hobart Technology Centre
footprint AXIAL-0.4
footprint SIP-P4/A7.5
footprint 0805R
pins: 1, 2
2 alternate drawings of the same symbol

## RES2_4
designator R?, comment 10K
品牌： UNI-ROYAL(厚声) 型号： 0805W8F1002T5E 电阻类型：厚膜电阻 阻值：10kΩ 精度：±1% 功率：125mW 温度系数：±100ppm/℃
footprint 0805R
pins: 1, 2

## Res2_5
designator R?, comment 1k
品牌： UNI-ROYAL(厚声) 型号： 0805W8F1001T5E 电阻类型：厚膜电阻 阻值：1kΩ 精度：±1% 功率：125mW 温度系数：±100ppm/℃; Value: 1k(0.1%); Published: 8-Jun-2000; LatestRevisionDate: 17-Jul-2002; LatestRevisionNote: Re-released for DXP Platform.; PackageReference: AXIAL-0.4; Publisher: Altium Limited; PackageDescription: Axial Device, Thru-Hole; 2 Leads; 0.4 in Pin Spacing
simulation model RESISTOR (Resistor)
signal-integrity model Res
footprint 0805R
pins: 1, 2

## Res2_6
designator R?, comment 4.7k
品牌： UNI-ROYAL(厚声) 型号： 0805W8F4701T5E 电阻类型：厚膜电阻 阻值：4.7kΩ 精度：±1% 功率：125mW 温度系数：±100ppm/℃; Value: 4.7k(0.1%); Published: 8-Jun-2000; LatestRevisionDate: 17-Jul-2002; LatestRevisionNote: Re-released for DXP Platform.; PackageReference: AXIAL-0.4; Publisher: Altium Limited; PackageDescription: Axial Device, Thru-Hole; 2 Leads; 0.4 in Pin Spacing
simulation model RESISTOR (Resistor)
signal-integrity model Res
footprint 0805R
pins: 1, 2

## Res2_7
designator R?, comment 10M
品牌： Sunway(信维通信)   型号： SC0805J1005F4ANRH   阻值：10MΩ 精度：±5% 功率：125mW 温度系数：±100ppm/℃ 贴片厚膜电阻：体积0805_精度：±5% 阻值10M; Published: 8-Jun-2000; LatestRevisionDate: 17-Jul-2002; LatestRevisionNote: Re-released for DXP Platform.; PackageReference: AXIAL-0.4; Publisher: Altium Limited; PackageDescription: Axial Device, Thru-Hole; 2 Leads; 0.4 in Pin Spacing; Value: 10M
simulation model RESISTOR (Resistor)
signal-integrity model Res
footprint 0805R
pins: 1, 2

## Res2_8
designator R?, comment 13k(0.1%)
品牌： UNI-ROYAL(厚声)  型号： 0805W8F1302T5E  电阻类型：厚膜电阻 阻值：13kΩ 精度：±1% 功率：125mW 温度系数：±100ppm/℃; Published: 8-Jun-2000; LatestRevisionDate: 17-Jul-2002; LatestRevisionNote: Re-released for DXP Platform.; PackageReference: AXIAL-0.4; Publisher: Altium Limited; PackageDescription: Axial Device, Thru-Hole; 2 Leads; 0.4 in Pin Spacing; Value: 13k(0.1%)
simulation model RESISTOR (Resistor)
signal-integrity model Res
footprint 0805R
pins: 1, 2

## Res2_9
designator R?, comment 4.7K
品牌： UNI-ROYAL(厚声) 型号： 0805W8F4701T5E 电阻类型：厚膜电阻 阻值：4.7kΩ 精度：±1% 功率：125mW 温度系数：±100ppm/℃; Published: 8-Jun-2000; LatestRevisionDate: 17-Jul-2002; LatestRevisionNote: Re-released for DXP Platform.; PackageReference: AXIAL-0.4; Publisher: Altium Limited; PackageDescription: Axial Device, Thru-Hole; 2 Leads; 0.4 in Pin Spacing; Value: 4.7K
simulation model RESISTOR (Resistor)
signal-integrity model Res
footprint 0805R
pins: 1, 2

## RES2_10
designator R?, comment RES2  value 750R
Resistor; Manufacturer: Generic Components; Class: Passive; Published: 08/06/2000; Publisher: Altium Hobart Technology Centre; SubClass: Resistor
footprint AXIAL-0.4
footprint HDR1X6
footprint 0603R
pins: 1, 2
2 alternate drawings of the same symbol

## Res2_11
designator R?, comment 1K
品牌： UNI-ROYAL(厚声) 型号： 0805W8F1001T5E 电阻类型：厚膜电阻 阻值：1kΩ 精度：±1% 功率：125mW 温度系数：±100ppm/℃; Published: 8-Jun-2000; LatestRevisionDate: 17-Jul-2002; LatestRevisionNote: Re-released for DXP Platform.; PackageReference: AXIAL-0.4; Publisher: Altium Limited; PackageDescription: Axial Device, Thru-Hole; 2 Leads; 0.4 in Pin Spacing; Value: 1K
simulation model RESISTOR (Resistor)
signal-integrity model Res
footprint 0805R
pins: 1, 2

## Res2_12
designator R?, comment 4.7K
品牌： UNI-ROYAL(厚声) 型号： 0805W8F4701T5E 电阻类型：厚膜电阻 阻值：4.7kΩ 精度：±1% 功率：125mW 温度系数：±100ppm/℃; Value: 10K; Published: 8-Jun-2000; LatestRevisionDate: 17-Jul-2002; LatestRevisionNote: Re-released for DXP Platform.; PackageReference: AXIAL-0.4; Publisher: Altium Limited; PackageDescription: Axial Device, Thru-Hole; 2 Leads; 0.4 in Pin Spacing
footprint AXIAL-0.4 (Axial Device, Thru-Hole; 2 Leads; 0.4 in Pin Spacing)
simulation model RESISTOR (Resistor)
signal-integrity model Res
footprint R0603 (1/10W)
footprint 0805R
pins: 1, 2

## RES2_13
designator R?, comment 10K
Resistor; Manufacturer: Generic Components; Class: Passive; Published: 08/06/2000; Publisher: Altium Hobart Technology Centre; SubClass: Resistor
footprint AXIAL-0.4
footprint SIP-P4/A7.5
footprint 0805R
pins: 1, 2
2 alternate drawings of the same symbol

## RES2_14
designator R?, comment 220
Resistor; Manufacturer: Generic Components; Class: Passive; Published: 08/06/2000; Publisher: Altium Hobart Technology Centre; SubClass: Resistor
footprint AXIAL-0.4
footprint DIP-14
footprint 0805R
pins: 1, 2
2 alternate drawings of the same symbol

## RES2_15
designator R?, comment 10K
footprint AXIAL0.4
pins: 1, 2

## Res2_16
designator R?, comment value 100K  (hidden comment: Res2)
Resistor; Published: 8-Jun-2000; LatestRevisionDate: 17-Jul-2002; LatestRevisionNote: Re-released for DXP Platform.; PackageReference: AXIAL-0.4; Publisher: Altium Limited; PackageDescription: Axial Device, Thru-Hole; 2 Leads; 0.4 in Pin Spacing
footprint AXIAL-0.4 (Axial Device, Thru-Hole; 2 Leads; 0.4 in Pin Spacing)
simulation model RESISTOR (Resistor)
signal-integrity model Res
footprint R0603 (1/10W)
footprint 0603R
pins: 1, 2

## Res2_17
designator R?, comment value 10K  (hidden comment: Res2)
Resistor; Published: 8-Jun-2000; LatestRevisionDate: 17-Jul-2002; LatestRevisionNote: Re-released for DXP Platform.; PackageReference: AXIAL-0.4; Publisher: Altium Limited; PackageDescription: Axial Device, Thru-Hole; 2 Leads; 0.4 in Pin Spacing
footprint AXIAL-0.4 (Axial Device, Thru-Hole; 2 Leads; 0.4 in Pin Spacing)
simulation model RESISTOR (Resistor)
signal-integrity model Res
footprint R0603 (1/10W)
footprint 0603R
pins: 1, 2

## Res2_18
designator R?, comment value 220R  (hidden comment: Res2)
Resistor; Published: 8-Jun-2000; LatestRevisionDate: 17-Jul-2002; LatestRevisionNote: Re-released for DXP Platform.; PackageReference: AXIAL-0.4; Publisher: Altium Limited; PackageDescription: Axial Device, Thru-Hole; 2 Leads; 0.4 in Pin Spacing
footprint AXIAL-0.4 (Axial Device, Thru-Hole; 2 Leads; 0.4 in Pin Spacing)
simulation model RESISTOR (Resistor)
signal-integrity model Res
footprint R0603 (1/10W)
footprint 0603R
pins: 1, 2

## RES2_19
designator R?, comment 360R
品牌： UNI-ROYAL(厚声) 型号： MFR0W4F3600A50电阻类型：金属膜电阻 阻值：360Ω 精度：±1% 功率：250mW 温度系数：±50ppm/℃ 铜脚，圆柱状直插 1/4W; Manufacturer: Generic Components; Class: Passive; SubClass: Resistor; Published: 08/06/2000; Publisher: Altium Hobart Technology Centre
footprint AXIAL-0.4
footprint SIP-P4/A7.5
footprint AXIAL0.4
pins: 1, 2
2 alternate drawings of the same symbol

## RES2_20
designator R?, comment 150
品牌： UNI-ROYAL(厚声) 型号： 0805W8F1500T5E ：电阻类型：厚膜电阻 阻值：150Ω 精度：±1% 功率：125mW 温度系数：±100ppm/℃; Manufacturer: Generic Components; Class: Passive; SubClass: Resistor; Published: 08/06/2000; Publisher: Altium Hobart Technology Centre
footprint AXIAL-0.4
footprint SIP-P4/A7.5
footprint 0805R
pins: 1, 2
2 alternate drawings of the same symbol

## RES2_21
designator R?, comment 330
品牌： UNI-ROYAL(厚声) 型号： MFR0W4F3300A50 电阻类型：金属膜电阻 阻值：330Ω 精度：±1% 功率：250mW 温度系数：±50ppm/℃ 铜脚，圆柱状直插 1/4W; Manufacturer: Generic Components; Class: Passive; SubClass: Resistor; Published: 08/06/2000; Publisher: Altium Hobart Technology Centre
footprint AXIAL-0.4
footprint LED-1
footprint AXIAL0.4
pins: 1, 2
2 alternate drawings of the same symbol

## RES2_22
designator R?, comment 20/2W
品牌： 华星机电 型号： MF2WS-20Ω±1%T 电阻类型：金属膜电阻 阻值：20Ω 精度：±1% 功率：2W 温度系数：±200ppm/℃; Manufacturer: Generic Components; Class: Passive; SubClass: Resistor; Published: 08/06/2000; Publisher: Altium Hobart Technology Centre
footprint AXIAL-0.4
footprint LED-1
footprint AXIAL0.6
pins: 1, 2
2 alternate drawings of the same symbol

## RES2_23
designator R?, comment 3.3K
品牌： UNI-ROYAL(厚声) 型号： 0805W8F3301T5E  电阻类型：厚膜电阻 阻值：3.3kΩ 精度：±1% 功率：125mW 温度系数：±100ppm/℃; Manufacturer: Generic Components; Class: Passive; SubClass: Resistor; Published: 08/06/2000; Publisher: Altium Hobart Technology Centre
footprint AXIAL-0.4
footprint SIP-P4/A7.5
footprint 0805R
pins: 1, 2
2 alternate drawings of the same symbol

## RES4
designator R?, comment 1M
品牌： UNI-ROYAL(厚声) 型号： 0805W8J0105T5E  电阻类型：厚膜电阻 阻值：1MΩ 精度：±5% 功率：125mW 温度系数：±100ppm/℃
footprint 0805R
pins: 1, 2

## RES4_1
designator R?, comment 1M
品牌： UNI-ROYAL(厚声)  型号： 0805W8F1004T5E  电阻类型：厚膜电阻 阻值：1MΩ 精度：±1% 功率：125mW 温度系数：±100ppm/℃
footprint 0805R
pins: 1, 2

## RES4_2
designator R?, comment 10K
品牌： UNI-ROYAL(厚声) 型号： 0805W8F1002T5E 电阻类型：厚膜电阻 阻值：10kΩ 精度：±1% 功率：125mW 温度系数：±100ppm/℃
footprint 0805R
pins: 1, 2

## RM10D471KD14E100
designator R?  (value not drawn)
Manufacturer: Dersonic(德尔创); Add into BOM: yes; Varistor Voltage: 470V; Clamping Voltage: 775V; Allowable Voltage (DC): 385V; Allowable Voltage (AC): 300V; Peak Current: 2.5kA; Maximum Energy: 67J; Typical Capatitance: 210pF@1kHz; Rated Wattage: 400mW; Symbol: RM10D471KD14E100; Device: RM10D471KD14E100; LCSC Part Name: 钳位电压775V 67焦耳 插件压敏电阻; Supplier Part: C2974809; Manufacturer Part: RM10D471KD14E100; Supplier Footprint: 插件,P=7.5mm; JLCPCB Part Class: Extended Part; Datasheet: https://atta.szlcsc.com/upload/public/pdf/source/20220216/7E2B8E32815A179BCD41409596CBB68C.pdf; Supplier: LCSC; Convert to PCB: yes
footprint RES-TH_L12.5-W4.1-P7.50-D0.8-S2.66
3D model RES-TH_L12.5-W4.1-P7.50-D0.8-S2.66
footprint YAMINGDIANZU
pins: 1, 2

## Speaker
designator FM?, comment 有源蜂鸣器
Loudspeaker; value: 3.3V 12*9.5; Published: *; Manufacturer: *
footprint SPK
footprint SPK
pins: 1, 2
2 alternate drawings of the same symbol

## stm32f103vct6
designator *?, comment Other
footprint STM-LQFP100_N (Thin QFP, 100-Leads, Body 14x14mm, Pitch 0.5mm, IPC Medium Density)
part A pins: 23 PA0/WKUP/USART2_CTS/ADC123_IN0/TIM5_CH1/TIM2_CH1_ETR/TIM8_ETR (io), 24 PA1/USART2_RTS/ADC123_IN1/TIM5_CH2/TIM2_CH2 (io), 25 PA2/USART2_TX/TIM5_CH3/ADC123_IN2/TIM2_CH3 (io), 26 PA3/USART2_RX/TIM5_CH4/ADC123_IN3/TIM2_CH4 (io), 29 PA4/SPI1_NSS/DAC_OUT1/USART2_CK/ADC12_IN4 (io), 30 PA5/SPI1_SCK/DAC_OUT2/ADC12_IN5 (io), 31 PA6/SPI1_MISO/TIM8_BKIN/ADC12_IN6/TIM3_CH1/TIM1_BKIN (io), 32 PA7/SPI1_MOSI/TIM8_CH1N/ADC12_IN7/TIM3_CH2/TIM1_CHIN (io), 67 PA8/USART1_CK/TIM1_CH1/MCO (io), 68 PA9/USART1_TX/TIM1_CH2 (io), 69 PA10/USART1_RX/TIM1_CH3 (io), 70 PA11/USART1_CTS/CAN_RX/TIM1_CH4/USB_DM (io), 71 PA12/USART1_RTS/CAN_TX/TIM1_ETR/USB_DP (io), 72 PA13/JTMS/SWDIO (io), 76 PA14/JTCK/SWCLK (io), 77 PA15/JTDI/SPI3_NSS/I2S3_WS (io)
part B pins: 35 PB0/ADC12_IN8/TIM3_CH3/TIM8_CH2N/TIM1_CH2N (io), 36 PB1/ADC12_IN9/TIM3_CH4/TIM8_CH3N/TIM1_CH3N (io), 37 PB2/BOOT1 (io), 47 PB10/I2C2_SCL/USART3_TX/TIM2_CH3 (io), 48 PB11/I2C2_SDA/USART3_RX/TIM2_CH4 (io), 51 PB12/SPI2_NSS/I2S2_WS/I2C2_SMBA/USART3_CK/TIM1_BKIN (io), 52 PB13/SPI2_SCK/I2S2_CK/USART3_CTS/TIM1_CH1N (io), 53 PB14/SPI2_MISO/TIM1_CH2N/USART3_RTS (io), 54 PB15/SPI2_MOSI/I2S2_SD/TIM1_CH3N (io), 89 PB3/JTDO/TRACESWO/SPI3_SCK/I2S3_CK/TIM2_CH2/SPI1_SCK (io), 90 PB4/NJTRST/SPI3_MISO/TIM3_CH1/SPI1_MISO (io), 91 PB5/I2C1_SMBA/SPI3_MOSI/I2S3_SD/TIM3_CH2/SPI1_MOSI (io), 92 PB6/I2C1_SCL/TIM4_CH1/USART1_TX (io), 93 PB7/I2C1_SDA/FSMC_NADV/TIM4_CH2/USART1_RX (io), 95 PB8/TIM4_CH3/SDIO_D4/I2C1_SCL/CAN_RX (io), 96 PB9/TIM4_CH4/SDIO_D5/I2C1_SDA/CAN_TX (io)
part C pins: 7 PC13/TAMPER-RTC (io), 8 PC14/OSC32_IN (io), 9 PC15/OSC32_OUT (io), 15 PC0/ADC123_IN10 (io), 16 PC1/ADC123_IN11 (io), 17 PC2/ADC123_IN12 (io), 18 PC3/ADC123_IN13 (io), 33 PC4/ADC12_IN14 (io), 34 PC5/ADC12_IN15 (io), 63 PC6/I2S2_MCK/TIM8_CH1/SDIO_D6/TIM3_CH1 (io), 64 PC7/I2S3_MCK/TIM8_CH2/SDIO_D7/TIM3_CH2 (io), 65 PC8/TIM8_CH3/SDIO_D0/TIM3_CH3 (io), 66 PC9/TIM8_CH4/SDIO_D1/TIM3_CH4 (io), 78 PC10/USART4_TX/SDIO_D2/USART3_TX (io), 79 PC11/USART4_RX/SDIO_D3/USART3_RX (io), 80 PC12/USART5_TX/SDIO_CK/USART3_CK (io)
part D pins: 55 PD8/FSMC_D13/USART3_TX (io), 56 PD9/FSMC_D14/USART3_RX (io), 57 PD10/FSMC_D15/USART3_CK (io), 58 PD11/FSMC_A16/USART3_CTS (io), 59 PD12/FSMC_A17/TIM4_CH1/USART3_RTS (io), 60 PD13/FSMC_A18/TIM4_CH2 (io), 61 PD14/FSMC_D0/TIM4_CH3 (io), 62 PD15/FSMC_D1/TIM4_CH4 (io), 81 PD0/FSMC_D2/CAN_RX (io), 82 PD1/FSMC_D3/CAN_TX (io), 83 PD2/TIM3_ETR/USART5_RX/SDIO_CMD (io), 84 PD3/FSMC_CLK/USART2_CTS (io), 85 PD4/FSMC_NOE/USART2_RTS (io), 86 PD5/FSMC_NWE/USART2_TX (io), 87 PD6/FSMC_NWAIT/USART2_RX (io), 88 PD7/FSMC_NE1/FSMC_NCE2/USART2_CK (io)
part E pins: 1 PE2/TRACECK/FSMC_A23 (io), 2 PE3/TRACED0/FSMC_A19 (io), 3 PE4/TRACED1/FSMC_A20 (io), 4 PE5/TRACED2/FSMC_A21 (io), 5 PE6/TRACED3/FSMC_A22 (io), 38 PE7/FSMC_D4/TIM1_ETR (io), 39 PE8/FSMC_D5/TIM1_CH1N (io), 40 PE9/FSMC_D6/TIM1_CH1 (io), 41 PE10/FSMC_D7/TIM1_CH2N (io), 42 PE11/FSMC_D8/TIM1_CH2 (io), 43 PE12/FSMC_D9/TIM1_CH3N (io), 44 PE13/FSMC_D10/TIM1_CH3 (io), 45 PE14/FSMC_D11/TIM1_CH4 (io), 46 PE15/FSMC_D12/TIM1_BKIN (io), 97 PE0/TIM4_ETR/FSMC_NBL0 (io), 98 PE1/FSMC_NBL1 (io)
part F pins: 6 VBAT (power), 10 VSS_5 (power), 11 VDD_5 (power), 12 OSC_IN (in), 13 OSC_OUT (out), 14 NRST (io), 19 VSSA (power), 20 VREF- (power), 21 VREF+ (power), 22 VDDA (power), 27 VSS_4 (power), 28 VDD_4 (power), 49 VSS_1 (power), 50 VDD_1 (power), 73 NC, 74 VSS_2 (power), 75 VDD_2 (power), 94 BOOT0 (in), 99 VSS_3 (power), 100 VDD_3 (power)

## SW-PB
designator S?, comment TS-1101-C-W
品牌： XKB Connectivity(中国星坤)  型号： TS-1101-C-W  型号： TS-1101-C-W
footprint TSW SMD-3*6*2.5 (3*6*2.5mm)
pins: 1, 2

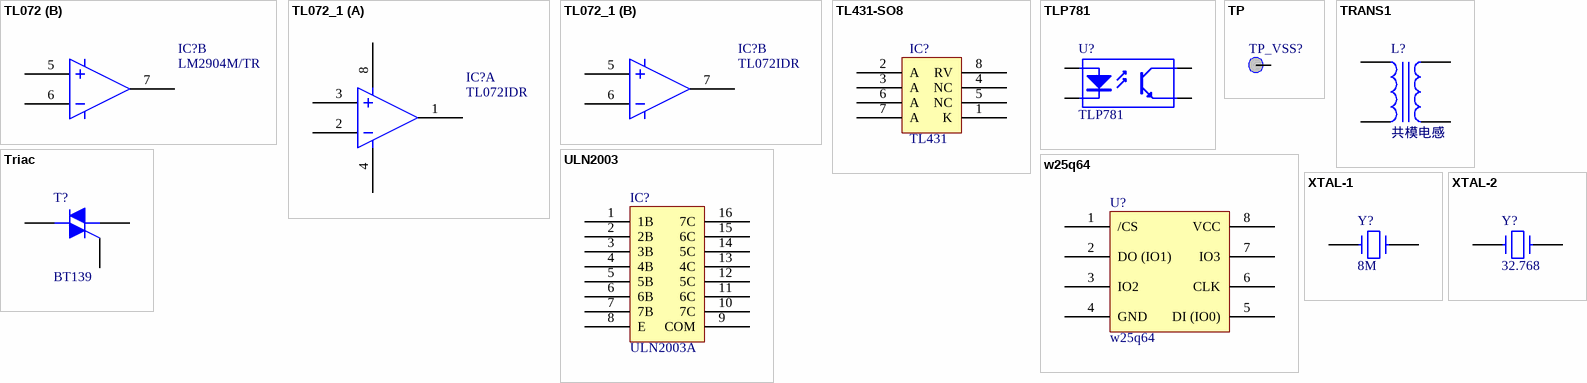
[diagram p3: symbols TL072 to XTAL-2]

## TL072
designator IC?, comment LM2904M/TR
品牌： HGSEMI(华冠)   型号： LM2904M/TR
footprint LM2904M/TR
part A pins: 1, 2, 3, 4, 8
part B pins: 5, 6, 7

## TL072_1
designator IC?, comment TL072IDR
品牌： TI(德州仪器)   型号： TL072IDR  放大器组数：2 增益带宽积(GBP)：5.25MHz 压摆率(SR)：13V/us 输入失调电压(Vos)：3mV 输入偏置电流(Ib)：65pA TL072 双路低噪声 JFET 输入通用运算放大器
footprint SOP8
part A pins: 1, 2, 3, 4, 8
part B pins: 5, 6, 7

## TL431-SO8
designator IC?, comment TL431
品牌： JSMSEMI(杰盛微) 型号： TL431输出类型：可调 输入电压：37V 输出电压：2.5V~36V
footprint SO8
pins: 1 K, 2 A, 3 A, 4 NC, 5 NC, 6 A, 7 A, 8 RV

## TLP781
designator U?
footprint TLP781
footprint EL-817
footprint suo
pins: 1 A "Anode", 2 K "Cathode", 3 E "Emitter", 4 C "Collector"

## TP
designator TP_VSS?
footprint TPP
pins: 1

## TRANS1
designator L?, comment 共模电感
UF16 22mH 1.5A 12.5*10
footprint TRANS
pins: 1, 2, 3, 4

## Triac
designator T?, comment BT139
品牌：FUXINSEMI(富芯森美) 型号： BT139-600E; Manufacturer: Generic Components; Class: Discrete; SubClass: TRIAC; Note: Pin 2 is electrically connected to Pin 4 (TAB); Published: 29/09/2000
footprint SFM-T3/A2.4V
footprint TO220E
pins: 1 M1, 2 M2, 3 G
2 alternate drawings of the same symbol

## ULN2003
designator IC?, comment ULN2003A
footprint SO16
pins: 1 1B, 2 2B, 3 3B, 4 4B, 5 5B, 6 6B, 7 7B, 8 E, 9 COM, 10 7C, 11 6C, 12 5C, 13 4C, 14 5C, 15 6C, 16 7C

## w25q64
designator U?
品牌： WINBOND(华邦)   型号： W25Q64JVSSIM
footprint W25Q64
pins: 1 /CS, 2 DO (IO1), 3 IO2, 4 GND, 5 DI (IO0), 6 CLK, 7 IO3, 8 VCC

## XTAL-1
designator Y?, comment 8M
品牌： YXC(扬兴晶振)  型号： X49SD8MSD2SC   频率：8MHz 频率公差：±20ppm 负载电容：20pF 频率： 8MHz 负载： 20pF 频率公差： ±20ppm 工作温度： -20~70℃
footprint XTAL3
pins: 1, 2

## XTAL-2
designator Y?, comment 32.768
品牌： YXC(扬兴晶振)  型号： X308032768KGB2SC 频率：32.768kHz 频率公差：±10ppm 负载电容：12.5pF YT-38 温飘系数: -0.04x 10^(-6)/℃2
footprint XTAL6
pins: 1, 2